# Altium footprint library Screw_Test.PcbLib: 3 footprints
Each footprint in its own frame and in the unit in brackets; x right, y up, seen from the top. Pads: shape width x height; smd on the part's side, far side on the other; paste and mask are expansions set on the pad; w line width, h text height; cw(c..) or ccw(c..) is an arc to the next point about the centre after c.
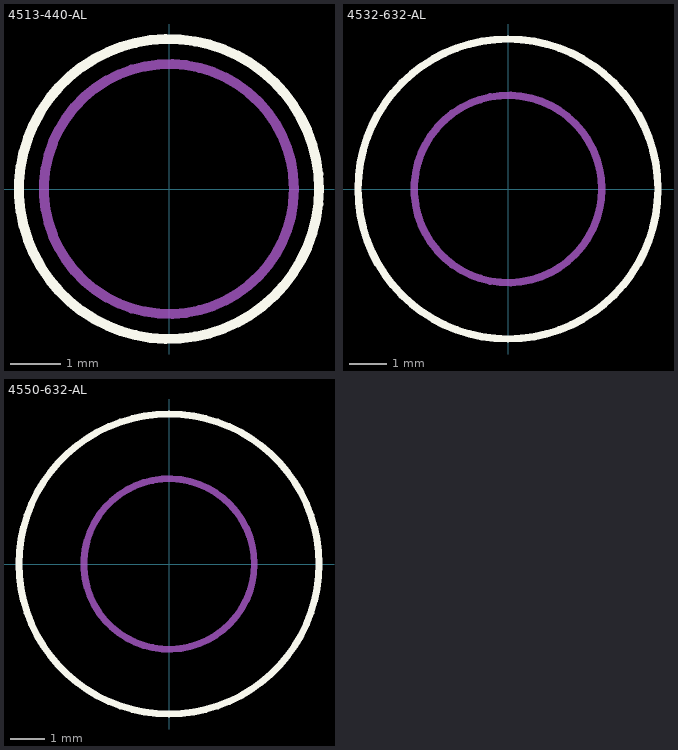
[diagram p0: the footprints below, top view; thin cyan lines are the x and y axes]

## 4513-440-AL [mm]
Top Overlay:
  circle w0.2: c0,0 r3
Mechanical 1:
  circle w0.2: c0,0 r2.5
Mechanical 29:
  circle w0.2: c0,0 r2.5
  text "'.Designator'" at -1.932,-0.181 h0.8
3D body "4513-440-AL.stp": height 25.9, standoff -4.26, extent -2.381,-2.742 2.381,2.742

## 4532-632-AL [mm]
Top Overlay:
  circle w0.2: c0,0 r4
Mechanical 1:
  circle w0.2: c0,0 r2.5
Mechanical 29:
  circle w0.2: c0,0 r2.5
  text "'.Designator'" at -1.932,-0.181 h0.8
3D body "4532-632-AL.stp": height 10.53, standoff -5.35, extent -3.175,-3.658 3.175,3.658

## 4550-632-AL [mm]
Top Overlay:
  circle w0.2: c0,0 r4.4
Mechanical 1:
  circle w0.2: c0,0 r2.5
Mechanical 29:
  circle w0.2: c0,0 r2.5
  text "'.Designator'" at -1.932,-0.181 h0.8
3D body "4550-632-AL.stp": height 38.1, standoff -6.35, extent -3.175,-3.658 3.175,3.659